# Altium schematic symbol library Connectors.SCHLIB: 77 symbols
Pins are listed as number, name and electrical type; pins without a type are passive.

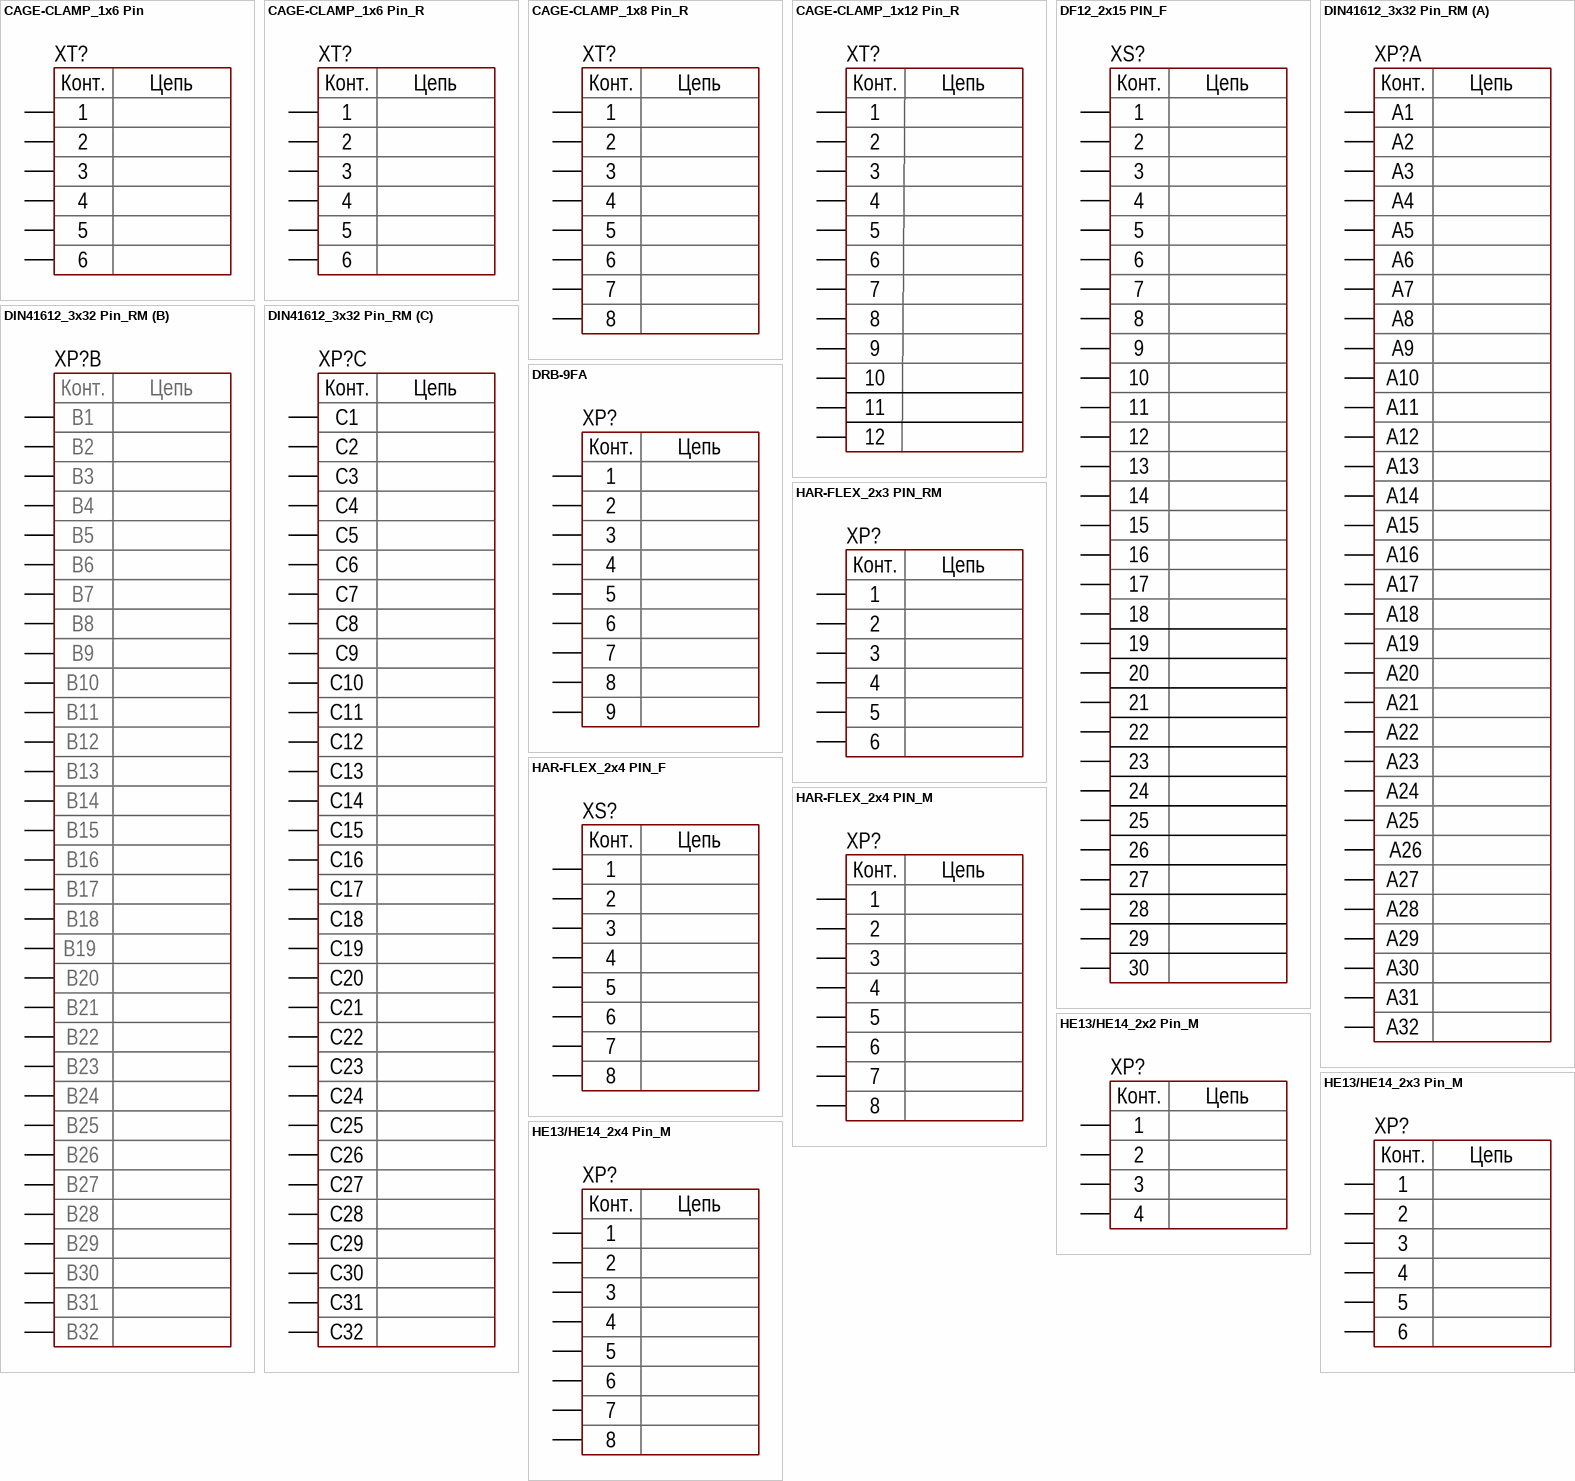
[diagram p0: symbols CAGE-CLAMP_1x6 Pin to HE13/HE14_2x4 Pin_M]

## CAGE-CLAMP_1x6 Pin
designator XT?, comment Cage Clamp  арт. 234-206 Wago  (value not drawn)
Cage Clamp, 1 Row, 6 Pin; Part N: 234-206 Wago
footprint CAGE-CLAMP_1x6 Pin
pins: 1, 2, 3, 4, 5, 6
text: Конт.; Цепь

## CAGE-CLAMP_1x6 Pin_R
designator XT?, comment Cage Clamp арт. 233-506 Wago  (value not drawn)
Cage Clamp, 1 Row, 6 Pin, Angled; Part N: 233-506 Wago
footprint CAGE-CLAMP_1x6 Pin_R
pins: 1, 2, 3, 4, 5, 6
text: Конт.; Цепь

## CAGE-CLAMP_1x8 Pin_R
designator XT?, comment Cage Clamp арт. 233-508 Wago  (value not drawn)
Cage Clamp, 1 Row, 8 Pin, Angled; Part N: 233-508 Wago
footprint CAGE-CLAMP_1x8 Pin_R
pins: 1, 2, 3, 4, 5, 6, 7, 8
text: Конт.; Цепь

## CAGE-CLAMP_1x12 Pin_R
designator XT?, comment Cage Clamp арт. 233-512 Wago  (value not drawn)
Cage Clamp, 1 Row, 12 Pin, Angled; Part N: Wago 233-512
footprint CAGE-CLAMP_1x12 Pin_R
pins: 1, 2, 3, 4, 5, 6, 7, 8, 9, 10, 11, 12
text: Конт.; Цепь

## DF12_2x15 PIN_F
designator XS?, comment DF12 арт. 537-0055-0 86 Hirose  (value not drawn)
footprint DF12_2X15 PIN_F
pins: 0 hidden to GND, 1, 2, 3, 4, 5, 6, 7, 8, 9, 10, 11, 12, 13, 14, 15, 16, 17, 18, 19, 20, 21, 22, 23, 24, 25, 26, 27, 28, 29, 30
text: Конт.; Цепь

## DIN41612_3x32 Pin_RM
designator XP?, comment DIN41612 арт. 09-03-196-7921 Harting  (value not drawn)
DIN 41612 Connector, Type C Series, 96 Contacts, Plug, 2.54 mm, 3 Row, a + b + c; Part: DIN41612-C-96-M-RA
footprint DIN41612-C-96-M-RA
part A pins: 0 hidden to GND, A1, A2, A3, A4, A5, A6, A7, A8, A9, A10, A11, A12, A13, A14, A15, A16, A17, A18, A19, A20, A21, A22, A23, A24, A25, A26, A27, A28, A29, A30, A31, A32
part B pins: B1, B2, B3, B4, B5, B6, B7, B8, B9, B10, B11, B12, B13, B14, B15, B16, B17, B18, B19, B20, B21, B22, B23, B24, B25, B26, B27, B28, B29, B30, B31, B32
part C pins: C1, C2, C3, C4, C5, C6, C7, C8, C9, C10, C11, C12, C13, C14, C15, C16, C17, C18, C19, C20, C21, C22, C23, C24, C25, C26, C27, C28, C29, C30, C31, C32
1 alternate drawing of the same symbol
part A text: Конт.; Цепь
part B text: Конт.; Цепь
part C text: Конт.; Цепь

## DRB-9FA
designator XP?  (value not drawn)
D-SUB 9 pin
footprint DRB-9FA
pins: 0 hidden to GND, 1, 2, 3, 4, 5, 6, 7, 8, 9
text: Конт.; Цепь

## HAR-FLEX_2x3 PIN_RM
designator XP?, comment Har-Flex арт. 15-15-006-2601-333 Harting  (value not drawn)
Har-Flex, 2 row, 6 pin, angled
footprint HAR-FLEX_2x3 PIN_RM
pins: 0 hidden to GND, 1, 2, 3, 4, 5, 6
text: Конт.; Цепь

## HAR-FLEX_2x4 PIN_F
designator XS?, comment Har-Flex арт. 15-22-008-2601-333 Harting  (value not drawn)
Har-Flex, 2 row, 8 pin
footprint HAR-FLEX_2x4 PIN_F
pins: 0 hidden to GND, 1, 2, 3, 4, 5, 6, 7, 8
text: Конт.; Цепь

## HAR-FLEX_2x4 PIN_M
designator XP?, comment Har-Flex арт. 15-12-008-2601-333 Harting  (value not drawn)
Har-Flex, 2 row, 8 pin
footprint HAR-FLEX_2x4 PIN_M
pins: 0 hidden to GND, 1, 2, 3, 4, 5, 6, 7, 8
text: Конт.; Цепь

## HE13/HE14_2x2 Pin_M
designator XP?, comment HE13/HE14 арт. 281739-2 TE Connectivity  (value not drawn)
AMPMODU HE13/HE14 Header 4 Pin 2.54 mm Thru-Hole
footprint HE13/HE14_2x2 Pin_M
pins: 1, 2, 3, 4
text: Конт.; Цепь

## HE13/HE14_2x3 Pin_M
designator XP?, comment HE13/HE14 арт. 281739-3 TE Connectivity  (value not drawn)
AMPMODU HE13/HE14 Header 6 Pin 2.54 mm Thru-Hole
footprint HE13/HE14_2x3 Pin_M
pins: 1, 2, 3, 4, 5, 6
text: Конт.; Цепь

## HE13/HE14_2x4 Pin_M
designator XP?, comment HE13/HE14 арт. 281739-4 TE Connectivity  (value not drawn)
AMPMODU HE13/HE14 Header 8 Pin 2.54 mm Thru-Hole
footprint HE13/HE14_2x4 Pin_M
pins: 1, 2, 3, 4, 5, 6, 7, 8
text: Конт.; Цепь

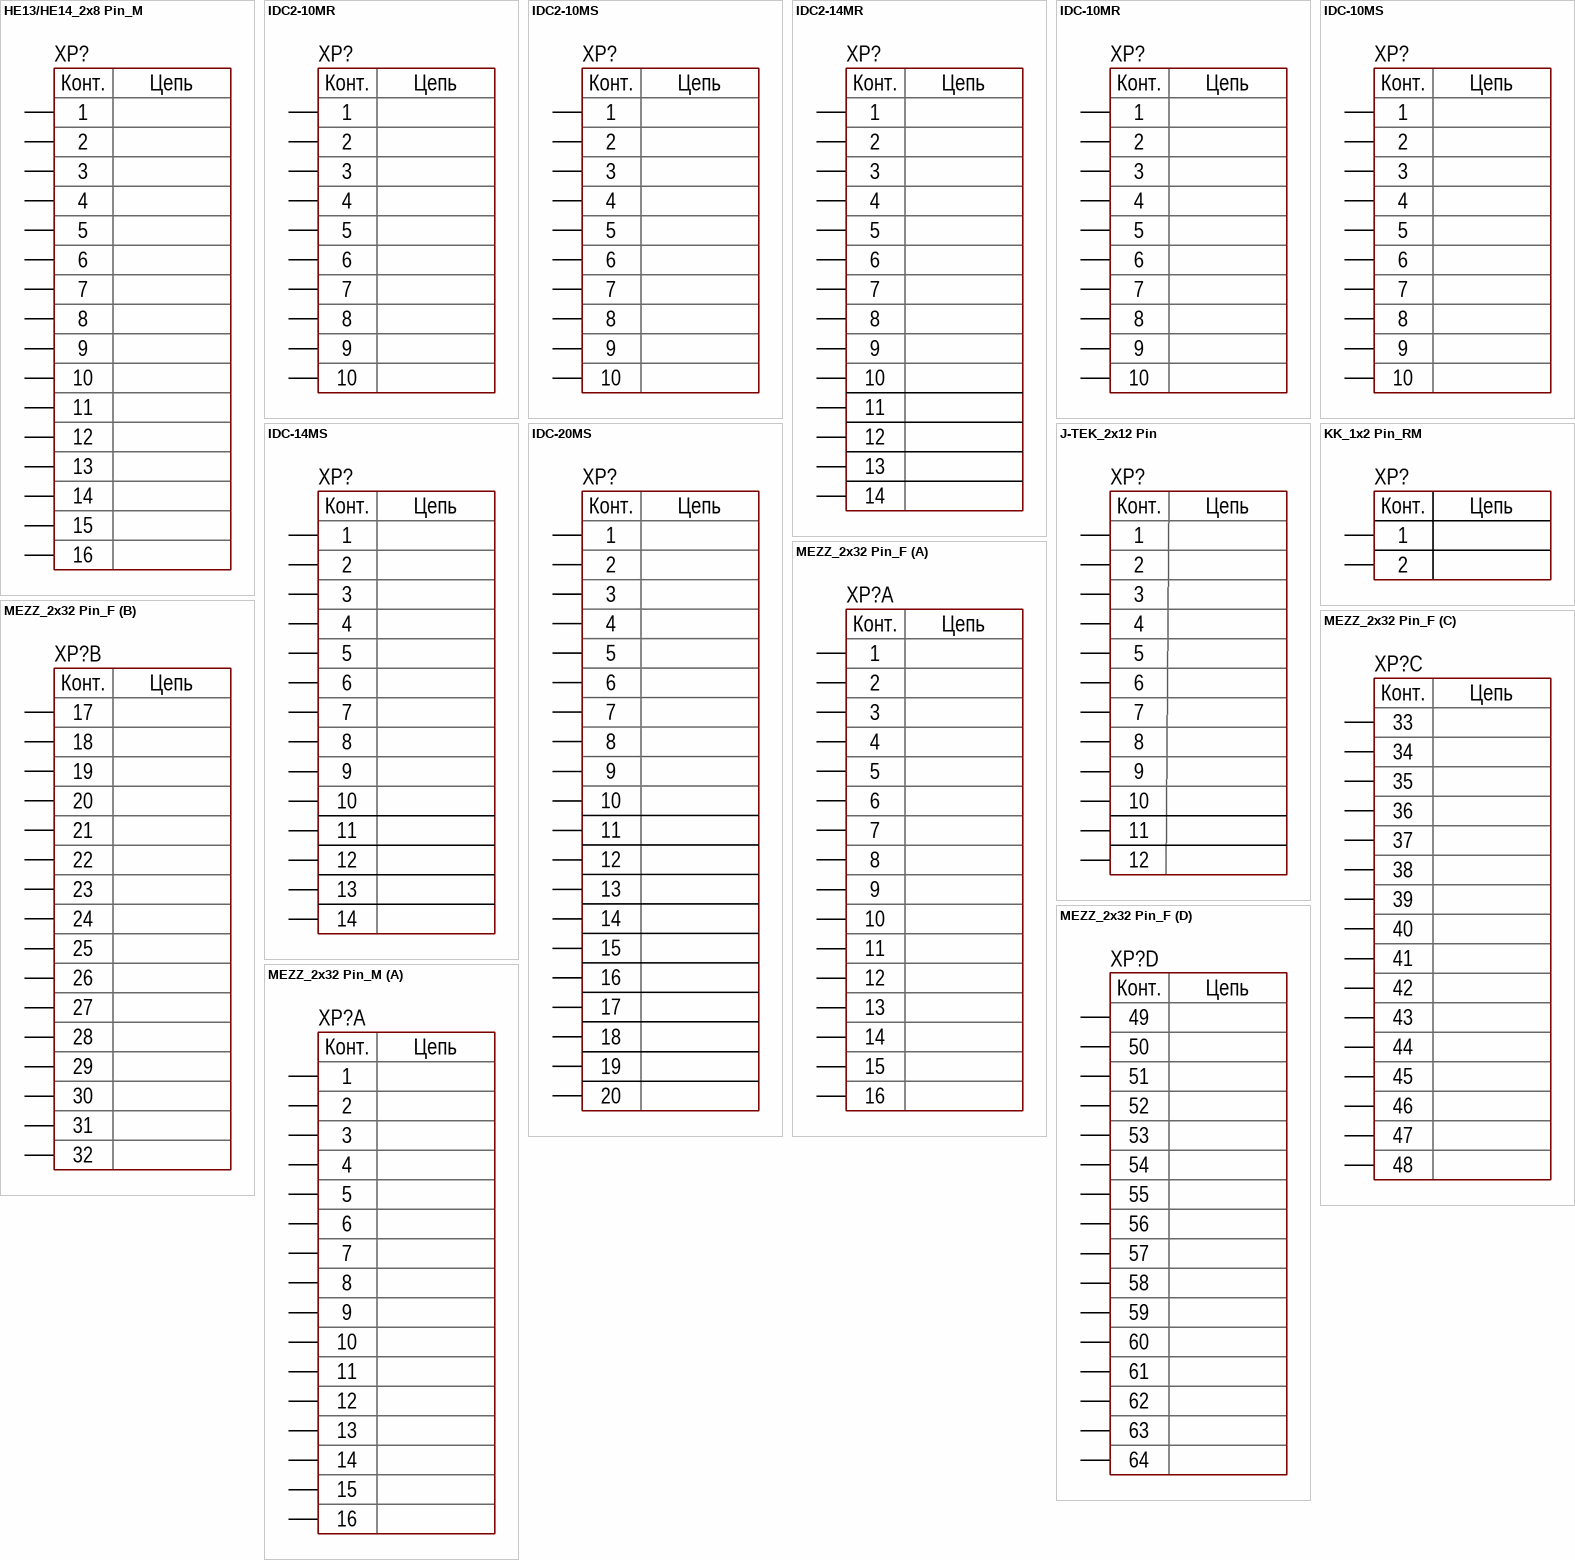
[diagram p1: symbols HE13/HE14_2x8 Pin_M to MEZZ_2x32 Pin_M]

## HE13/HE14_2x8 Pin_M
designator XP?, comment HE13/HE14 арт. 281739-8 TE Connectivity  (value not drawn)
AMPMODU HE13/HE14 Header 16 Pin 2.54 mm Thru-Hole
footprint HE13/HE14_2x8 Pin_M
pins: 1, 2, 3, 4, 5, 6, 7, 8, 9, 10, 11, 12, 13, 14, 15, 16
text: Конт.; Цепь

## IDC2-10MR
designator XP?  (value not drawn)
IDC Header, 10 pin, 2 row, 2mm, ANGLED; Part: BH2-10
footprint IDC2-10MR
pins: 1, 2, 3, 4, 5, 6, 7, 8, 9, 10
text: Конт.; Цепь

## IDC2-10MS
designator XP?  (value not drawn)
IDC Header, 10 pin, 2 row, 2mm; Part: BH2-10
footprint IDC2-10MS
pins: 1, 2, 3, 4, 5, 6, 7, 8, 9, 10
text: Конт.; Цепь

## IDC2-14MR
designator XP?  (value not drawn)
IDC Header, 14pin, 2 row, 2mm, angled
footprint IDC2-14MR
pins: 1, 2, 3, 4, 5, 6, 7, 8, 9, 10, 11, 12, 13, 14
text: Конт.; Цепь

## IDC-10MR
designator XP?  (value not drawn)
IDC Header, 10 pin, 2 row, 2.54mm, right angled
footprint IDC-10MR
pins: 1, 2, 3, 4, 5, 6, 7, 8, 9, 10
text: Конт.; Цепь

## IDC-10MS
designator XP?  (value not drawn)
IDC Header, 10 pin, 2 row, 2.54mm
footprint IDC-10MS
pins: 1, 2, 3, 4, 5, 6, 7, 8, 9, 10
text: Конт.; Цепь

## IDC-14MS
designator XP?  (value not drawn)
IDC Header, 14pin, 2 row, 2.54mm
footprint IDC-14MS
pins: 1, 2, 3, 4, 5, 6, 7, 8, 9, 10, 11, 12, 13, 14
text: Конт.; Цепь

## IDC-20MS
designator XP?  (value not drawn)
IDC Header, 20 pin, 2 row, 2.54mm
footprint IDC-20MS
pins: 1, 2, 3, 4, 5, 6, 7, 8, 9, 10, 11, 12, 13, 14, 15, 16, 17, 18, 19, 20
text: Конт.; Цепь

## J-TEK_2x12 Pin
designator XP?, comment J-Tek арт. M80-5001242 Harwin  (value not drawn)
J-Tek 12 signal; Part N: M80-5001242 Harwin
footprint J-TEK_2x12 Pin
pins: 0 hidden to GND, 1, 2, 3, 4, 5, 6, 7, 8, 9, 10, 11, 12
text: Конт.; Цепь

## KK_1x2 Pin_RM
designator XP?, comment KK арт. 22-05-3021 Molex  (value not drawn)
KK 254 2 pin angled; Manufacturer: Molex
footprint KK_1x2 Pin_RM (Molex 2.54mm Pitch KK® Solid Header, Right Angle, with Friction Lock, 2 Circuits, Tin (Sn) Plating)
pins: 1, 2
text: Конт.; Цепь

## MEZZ_2x32 Pin_F
designator XP?, comment Mezz арт. 71439-0164 Molex  (value not drawn)
Mezz (IEEE 1386) 64 pin female; Manufacturer: Molex
footprint MEZZ_2x32 Pin_F (Molex 1.00mm Pitch Mezzanine IEEE 1386 Receptacle, Surface Mount, Dual Row, Vertical Stacking, Tube, 0.76µm Gold (Au), 64 Circuits)
part A pins: 0 hidden to GND, 1, 2, 3, 4, 5, 6, 7, 8, 9, 10, 11, 12, 13, 14, 15, 16
part B pins: 17, 18, 19, 20, 21, 22, 23, 24, 25, 26, 27, 28, 29, 30, 31, 32
part C pins: 33, 34, 35, 36, 37, 38, 39, 40, 41, 42, 43, 44, 45, 46, 47, 48
part D pins: 49, 50, 51, 52, 53, 54, 55, 56, 57, 58, 59, 60, 61, 62, 63, 64
part A text: Конт.; Цепь
part B text: Конт.; Цепь
part C text: Конт.; Цепь
part D text: Конт.; Цепь

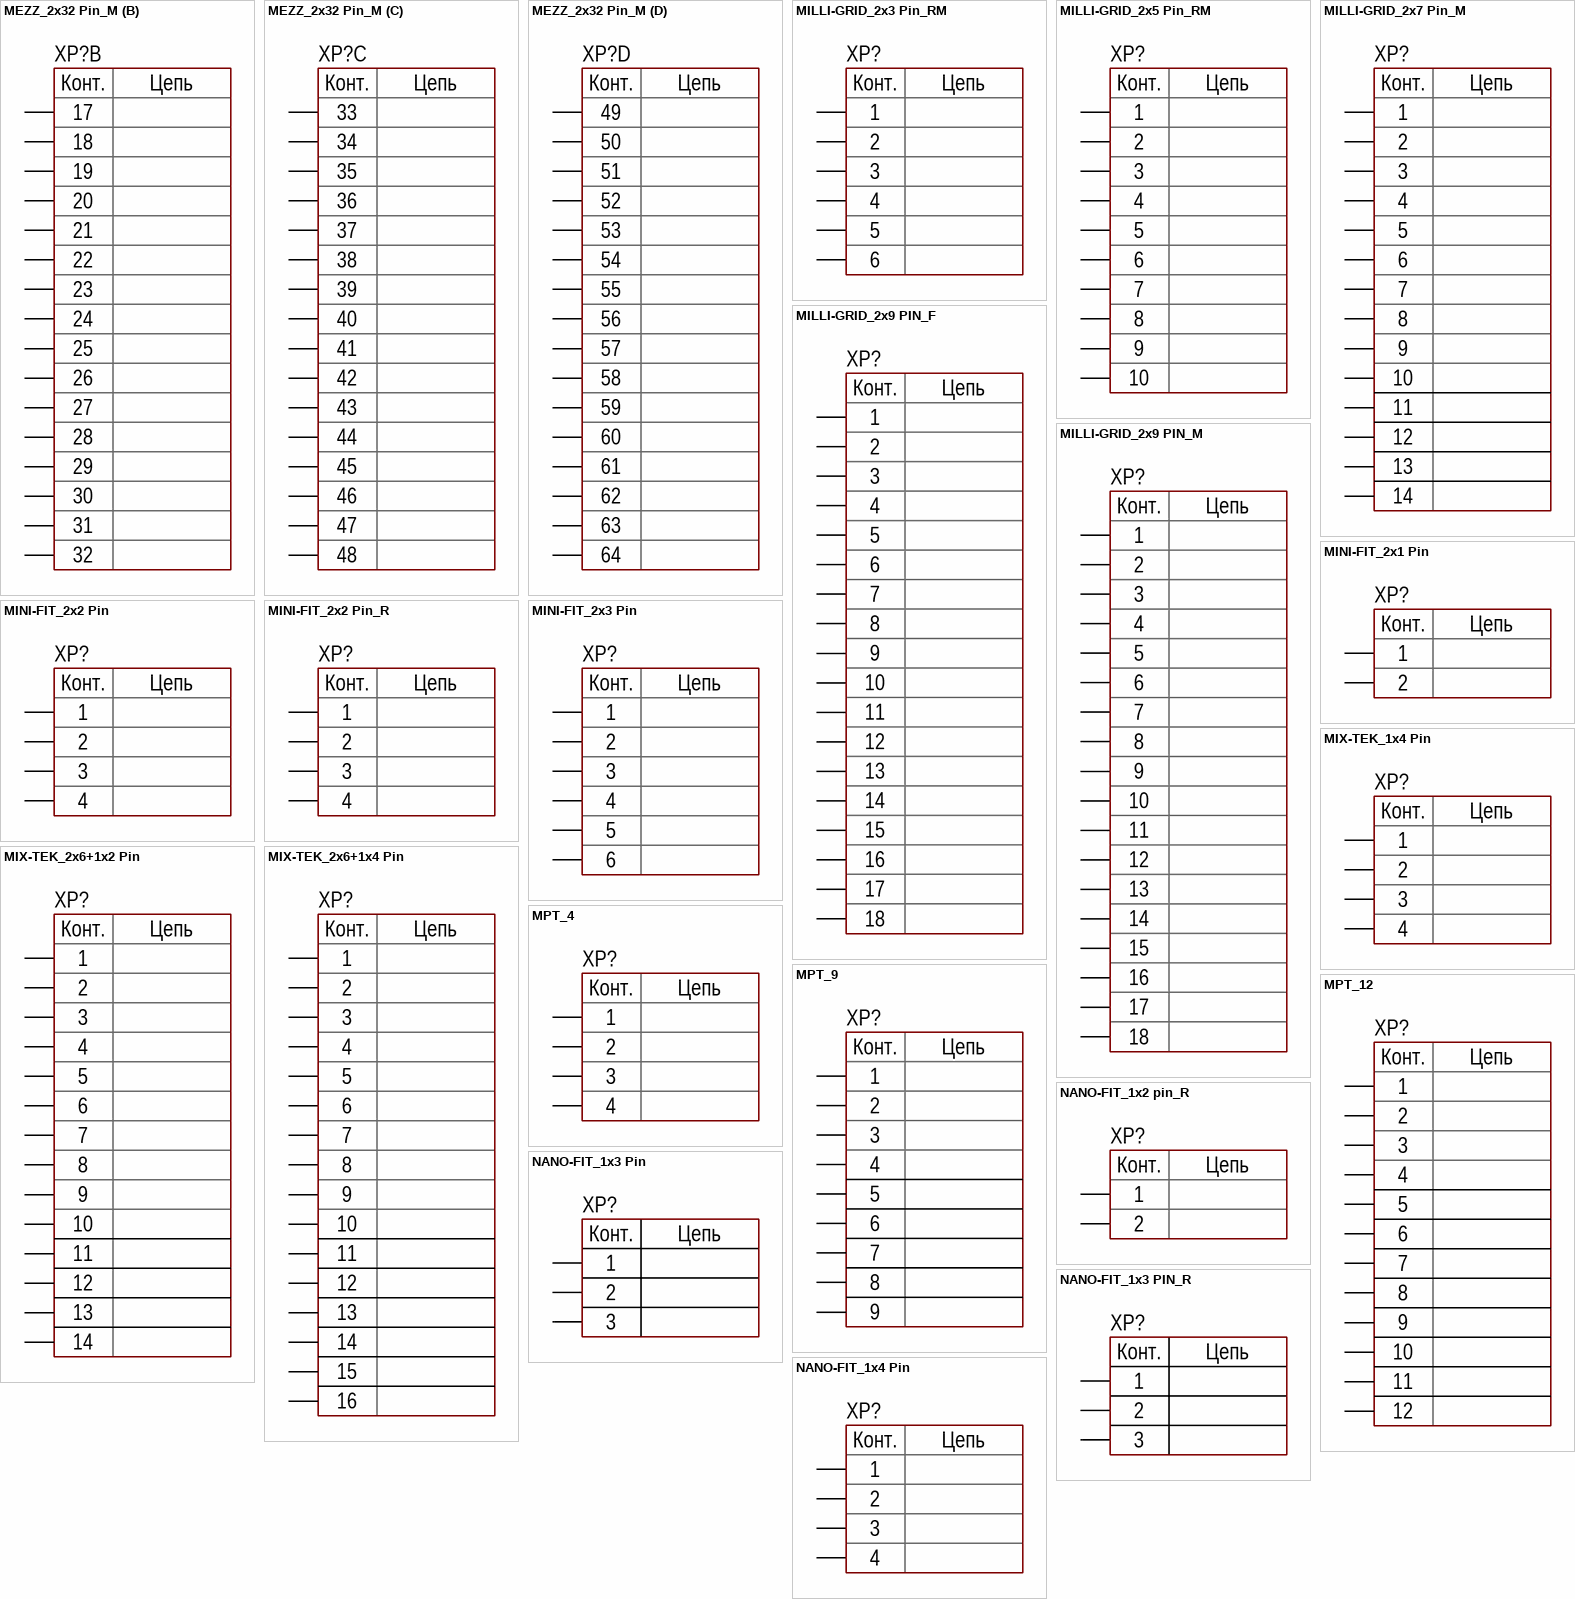
[diagram p2: symbols MEZZ_2x32 Pin_M to NANO-FIT_1x4 Pin]

## MEZZ_2x32 Pin_M
designator XP?, comment Mezz арт. 71436-0164 Molex  (value not drawn)
Mezz (IEEE 1386) 64 pin male; Manufacturer: Molex
footprint MEZZ_2x32 Pin_M (Molex 1.00mm Pitch Mezzanine IEEE 1386 Plug, Surface Mount, Dual Row, Vertical Stacking, 64 Circuits, 6.35mm Unmated Height, with PCB Locator Pegs)
part A pins: 0 hidden to GND, 1, 2, 3, 4, 5, 6, 7, 8, 9, 10, 11, 12, 13, 14, 15, 16
part B pins: 17, 18, 19, 20, 21, 22, 23, 24, 25, 26, 27, 28, 29, 30, 31, 32
part C pins: 33, 34, 35, 36, 37, 38, 39, 40, 41, 42, 43, 44, 45, 46, 47, 48
part D pins: 49, 50, 51, 52, 53, 54, 55, 56, 57, 58, 59, 60, 61, 62, 63, 64
part A text: Конт.; Цепь
part B text: Конт.; Цепь
part C text: Конт.; Цепь
part D text: Конт.; Цепь

## MILLI-GRID_2x3 Pin_RM
designator XP?, comment Milli-Grid арт. 87833-0619 Molex  (value not drawn)
Milli-Grid, 2 row, 6 pin, angled, male, shrouded; Manufacturer: Molex
footprint MILLI-GRID_2x3 Pin_RM (Molex 2.00mm Pitch Milli-Grid™ Header, Right Angle, Fully Shrouded, Lead-Free, 6 Circuits, Gold (Au) Flash Plating, without PCB Locator, without Locking Window, Center Polarization Slot, Tube)
pins: 1, 2, 3, 4, 5, 6
1 alternate drawing of the same symbol
text: Конт.; Цепь

## MILLI-GRID_2x5 Pin_RM
designator XP?, comment Milli-Grid арт. 78046-1020 Molex  (value not drawn)
Milli-Grid, 2 row, 10 pin, angled; Manufacturer: Molex
footprint MILLI-GRID_2x5 Pin_RM (Molex 2.00mm Pitch Milli-Grid™ Header, Right Angle, Through Hole, Shrouded, 10 Circuits, 0.38µm Gold (Au) Plating, with 2 Side Locking Slots, Center Polarization Window, Tube Packaging, Lead-Free)
pins: 1, 2, 3, 4, 5, 6, 7, 8, 9, 10
text: Конт.; Цепь

## MILLI-GRID_2x7 Pin_M
designator XP?, comment Milli-Grid арт. 87832-1420 Molex  (value not drawn)
Milli-Grid, 2 row, 14 pin
footprint MILLI-GRID_2x7 Pin_M (Molex 87832-1420)
pins: 0 hidden to GND, 1, 2, 3, 4, 5, 6, 7, 8, 9, 10, 11, 12, 13, 14
text: Конт.; Цепь

## MILLI-GRID_2x9 PIN_F
designator XP?, comment Milli-Grid арт. 79109-1008 Molex  (value not drawn)
MIlli-Grid 18 Pin; Part: 79109-1008
footprint MILLI-GRID_2x9 PIN_F (Molex 2.00mm Pitch Milli-Grid™ Receptacle, Surface Mount, Vertical, Top/Bottom Entry, without Press-fit Plastic Pegs, without Cap, Tube, 0.38µm Gold (Au) Selective, 18 Circuits, Lead-Free)
pins: 1, 2, 3, 4, 5, 6, 7, 8, 9, 10, 11, 12, 13, 14, 15, 16, 17, 18
text: Конт.; Цепь

## MILLI-GRID_2x9 PIN_M
designator XP?, comment Milli-Grid арт. 87759-1814 Molex  (value not drawn)
Milli-Grid, 2 row, 18 pin; Part: Molex 87759-1814
footprint MILLI-GRID_2x9 PIN_M (Molex 2.00mm Pitch Milli-Grid™ Receptacle, Surface Mount, Vertical, Top/Bottom Entry, without Press-fit Plastic Pegs, without Cap, Tube, 0.38µm Gold (Au) Selective, 18 Circuits, Lead-Free)
pins: 1, 2, 3, 4, 5, 6, 7, 8, 9, 10, 11, 12, 13, 14, 15, 16, 17, 18
text: Конт.; Цепь

## MINI-FIT_2x1 Pin
designator XP?, comment Mini-Fit арт. 39-29-9023 Molex  (value not drawn)
Mini-Fit 2 pin
footprint MINI-FIT_2x1 Pin
pins: 0 hidden to GND, 1, 2
text: Конт.; Цепь

## MINI-FIT_2x2 Pin
designator XP?, comment Mini-Fit арт. 39-28-1043 Molex  (value not drawn)
Mini-Fit 4 pin
footprint MINI-FIT_2x2 Pin
pins: 1, 2, 3, 4
text: Конт.; Цепь

## MINI-FIT_2x2 Pin_R
designator XP?, comment Mini-Fit арт. 39-30-1040 Molex  (value not drawn)
Mini-Fit 4 pin angled; Manufacturer: Molex
footprint MINI-FIT_2x2 Pin_R
pins: 0 hidden to GND, 1, 2, 3, 4
text: Конт.; Цепь

## MINI-FIT_2x3 Pin
designator XP?, comment Mini-Fit арт. 39-28-1063 Molex  (value not drawn)
Mini-Fit 6 pin
footprint MINI-FIT_2x3 Pin
pins: 1, 2, 3, 4, 5, 6
text: Конт.; Цепь

## MIX-TEK_1x4 Pin
designator XP?, comment Mix-Tek арт. M80-5000000M1-04-331-00-000 Harwin  (value not drawn)
Mix-Tek 4 power; Part N: M80-5000000M1-04-331-00-000 Harwin
footprint MIX-TEK_1x4 Pin
pins: 0 hidden to GND, 1, 2, 3, 4
text: Конт.; Цепь

## MIX-TEK_2x6+1x2 Pin
designator XP?, comment Mix-Tek арт. M80-5T11205M1-02-331-00-000 Harwin  (value not drawn)
Mix-Tek 12 signal/2 power
footprint MIX-TEK_2x6+1x2 Pin
pins: 0 hidden to GND, 1, 2, 3, 4, 5, 6, 7, 8, 9, 10, 11, 12, 13, 14
text: Конт.; Цепь

## MIX-TEK_2x6+1x4 Pin
designator XP?, comment M80-5T11205M1-04-331-00-000 Harwin  (value not drawn)
Mix-Tek 12 signal/4 power; Part N: M80-5T11205M1-04-331-00-000
footprint MIX-TEK_2x6+1x4 Pin
pins: 0 hidden to GND, 1, 2, 3, 4, 5, 6, 7, 8, 9, 10, 11, 12, 13, 14, 15, 16
text: Конт.; Цепь

## MPT_4
designator XP?, comment MPT арт. 1725672 Phoenix Contact  (value not drawn)
COMBICON MPT 4 Pin 2.54 mm Thru-Hole
footprint MPT_4 (1725672)
pins: 1, 2, 3, 4
text: Конт.; Цепь

## MPT_9
designator XP?, comment MPT арт. 1725724 Phoenix Contact  (value not drawn)
COMBICON MPT 9 Pin 2.54 mm Thru-Hole
footprint MPT_9 (1725724)
pins: 1, 2, 3, 4, 5, 6, 7, 8, 9
text: Конт.; Цепь

## MPT_12
designator XP?, comment MPT арт. 1725753 Phoenix Contact  (value not drawn)
COMBICON MPT 12 Pin 2.54 mm Thru-Hole
footprint MPT_12 (1725753)
pins: 1, 2, 3, 4, 5, 6, 7, 8, 9, 10, 11, 12
text: Конт.; Цепь

## NANO-FIT_1x2 pin_R
designator XP?, comment Nano-Fit арт. 105313-1102 Molex  (value not drawn)
Nano-Fit, 1 row, 2 pin, angled; Part N: MOLEX  105313-1102
footprint NANO-FIT_1x2 pin_R
pins: 0 hidden to GND, 1, 2
text: Конт.; Цепь

## NANO-FIT_1x3 Pin
designator XP?, comment Nano-Fit арт. 105309-1103 Molex  (value not drawn)
Nano-Fit, 1x3 pin; Part N: MOLEX  105313-1103
footprint Nano-Fit_1x3 Pin
pins: 0 hidden to GND, 1, 2, 3
text: Конт.; Цепь

## NANO-FIT_1x3 PIN_R
designator XP?, comment Nano-Fit арт. 105313-1103 Molex  (value not drawn)
Nano-Fit, 1 row, 3 pin, angled; Part N: MOLEX  105313-1103
footprint NANO-FIT_1x3 PIN_R
pins: 0 hidden to GND, 1, 2, 3
text: Конт.; Цепь

## NANO-FIT_1x4 Pin
designator XP?, comment Nano-Fit арт. 105309-1104 Molex  (value not drawn)
Nano-Fit, 1x4 pin; Part N: Molex 105309-1104
footprint Nano-Fit_1x4 Pin
pins: 0 hidden to GND, 1, 2, 3, 4
text: Конт.; Цепь

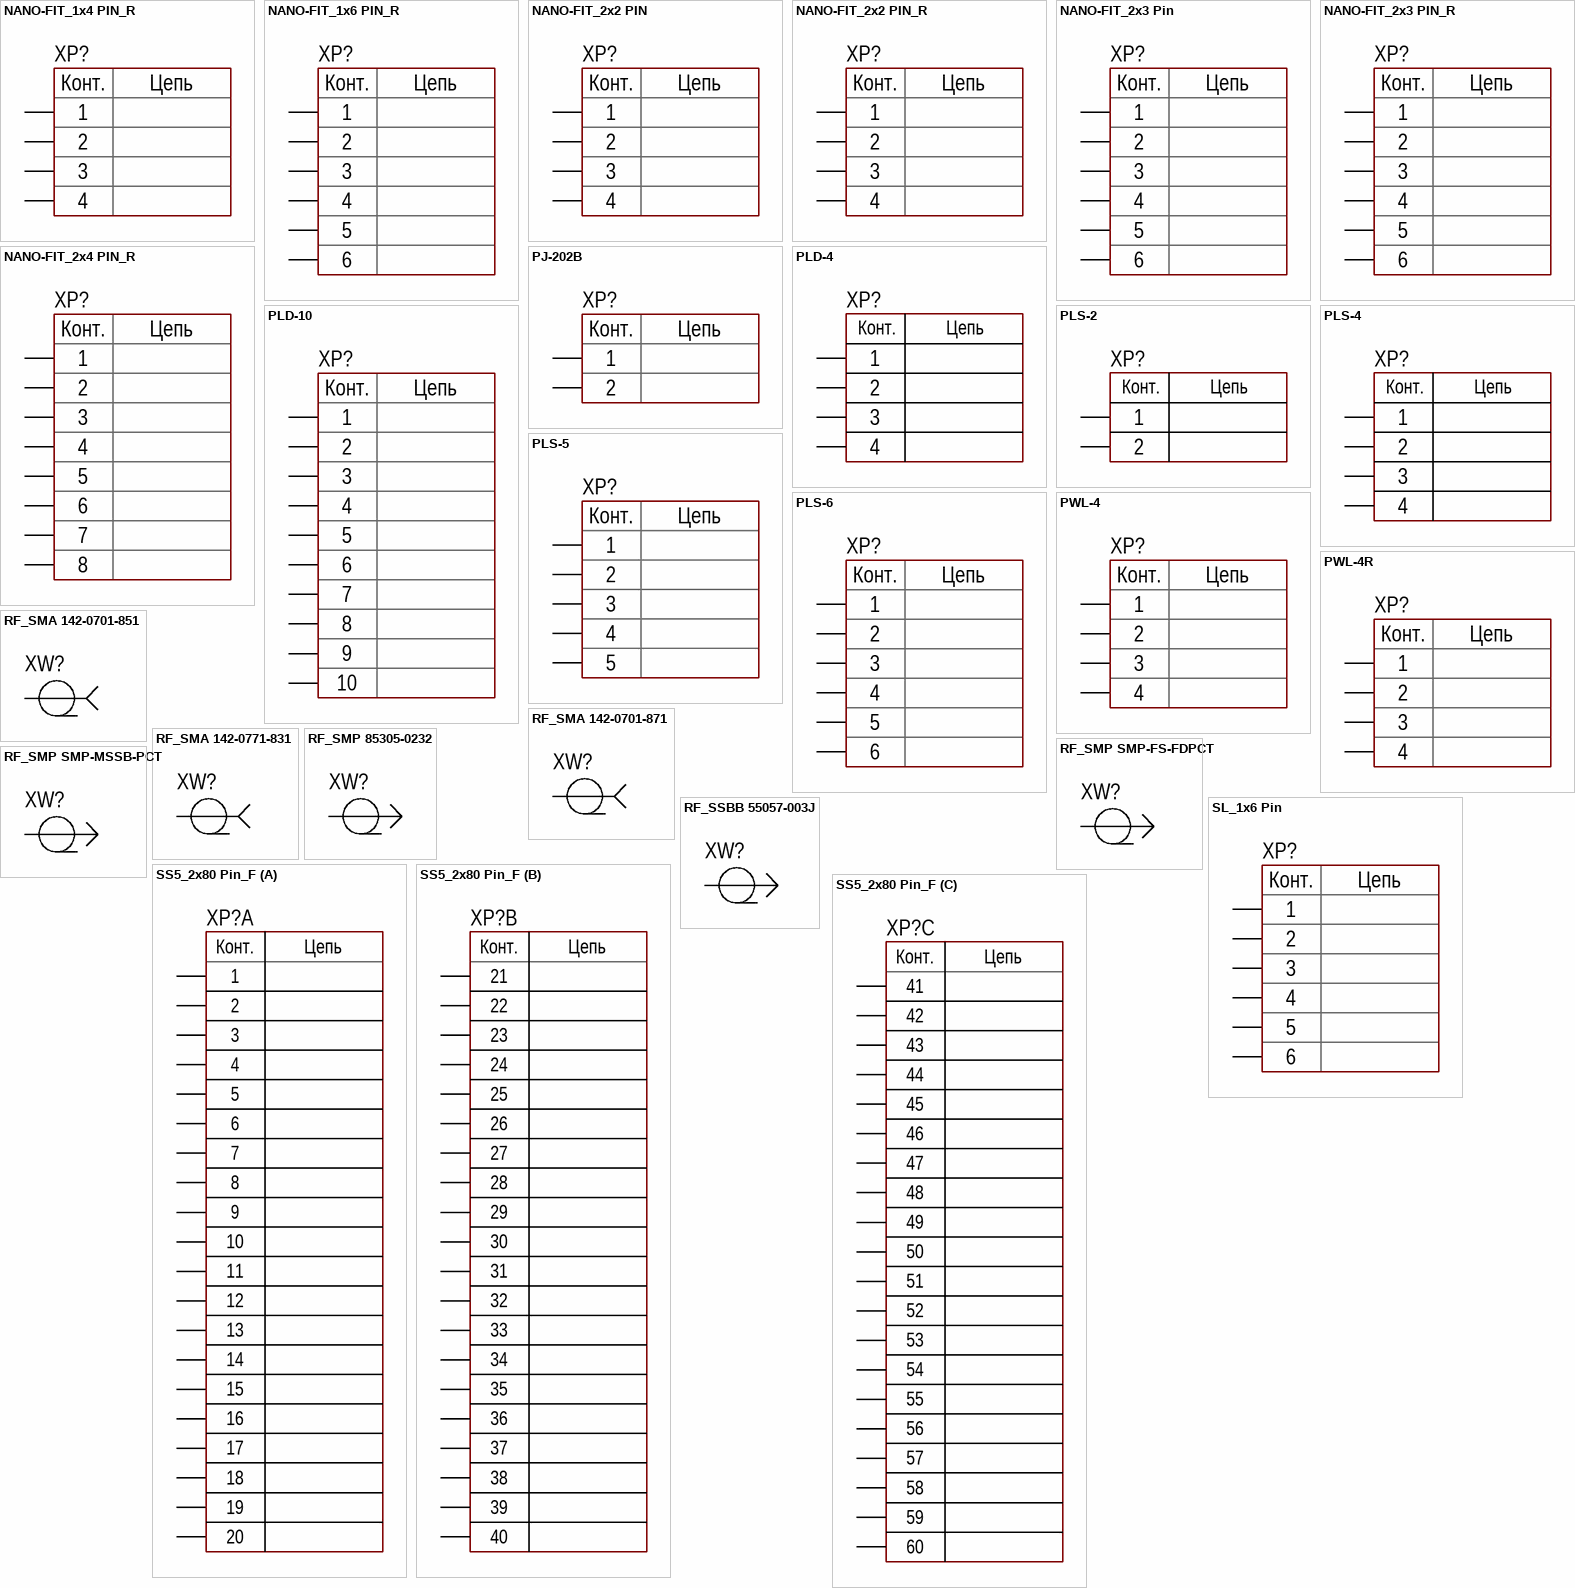
[diagram p3: symbols NANO-FIT_1x4 PIN_R to SS5_2x80 Pin_F]

## NANO-FIT_1x4 PIN_R
designator XP?, comment Nano-Fit арт. 105313-1104 Molex  (value not drawn)
Nano-Fit, 1 row, 4 pin, angled; Part N: MOLEX  105313-1104
footprint NANO-FIT_1x4 PIN_R
pins: 0 hidden to GND, 1, 2, 3, 4
text: Конт.; Цепь

## NANO-FIT_1x6 PIN_R
designator XP?, comment Nano-Fit арт. 105313-1106 Molex  (value not drawn)
MOLEX  105313-1106 (1x6 pin R/A L); Part N: MOLEX  105313-1106
footprint NANO-FIT_1x6 PIN_R
pins: 0 hidden to GND, 1, 2, 3, 4, 5, 6
text: Конт.; Цепь

## NANO-FIT_2x2 PIN
designator XP?, comment Nano-Fit арт. 105310-1104 Molex  (value not drawn)
Nano-Fit, 2 rows, 4 pins; Part N: MOLEX 105310-1104
footprint Nano-Fit_2x2 Pin
pins: 0 hidden to GND, 1, 2, 3, 4
text: Конт.; Цепь

## NANO-FIT_2x2 PIN_R
designator XP?, comment Nano-Fit арт. 105314-1104 Molex  (value not drawn)
Nano-Fit, 2 rows, 4 pin, angled; Part N: MOLEX 105314-1104
footprint MINI-FIT_2x2 Pin_R
pins: 0 hidden to GND, 1, 2, 3, 4
text: Конт.; Цепь

## NANO-FIT_2x3 Pin
designator XP?, comment Nano-Fit арт. 105310-1106 Molex  (value not drawn)
Nano-Fit, 2 rows, 6 pin; Part N: MOLEX 105310-1106
footprint Nano-Fit_2x3 Pin
pins: 0 hidden to GND, 1, 2, 3, 4, 5, 6
text: Конт.; Цепь

## NANO-FIT_2x3 PIN_R
designator XP?, comment Nano-Fit арт. MOLEX 105314-1106 Molex  (value not drawn)
Nano-fit, 2 rows, 6 pin, angled; Part N: MOLEX 105314-1106
footprint NANO-FIT_2x3 PIN_R
pins: 0 hidden to GND, 1, 2, 3, 4, 5, 6
text: Конт.; Цепь

## NANO-FIT_2x4 PIN_R
designator XP?, comment Nano-Fit арт. 105314-1108 Molex  (value not drawn)
Nano-Fit, 2 rows, 8 pin, angled; Part N: MOLEX 105314-1108
footprint NANO-FIT_2x4 PIN_R
pins: 0 hidden to GND, 1, 2, 3, 4, 5, 6, 7, 8
text: Конт.; Цепь

## PJ-202B
designator XP?  (value not drawn)
Power Jack, 24VDC, 2.5A
footprint PJ-202B
pins: 1, 2
text: Конт.; Цепь

## PLD-4
designator XP?  (value not drawn)
PLD Header, 4 pin
footprint PLD-4
pins: 1, 2, 3 (power), 4 (power)
text: Конт.; Цепь

## PLD-10
designator XP?  (value not drawn)
PLD Header, 10 pin
footprint PLD-10
pins: 1, 2, 3, 4, 5, 6, 7, 8, 9, 10
text: Конт.; Цепь

## PLS-2
designator XP?  (value not drawn)
PLS Header, 2 pin
footprint PLS-2
pins: 1, 2
text: Конт.; Цепь

## PLS-4
designator XP?  (value not drawn)
PLS Header, 4 pin
footprint PLS-4 (PLS-40 4 pin header)
pins: 1, 2, 3 (power), 4 (power)
text: Конт.; Цепь

## PLS-5
designator XP?  (value not drawn)
PLS Header, 6 pin
footprint PLS-5
pins: 1, 2, 3, 4, 5
text: Конт.; Цепь

## PLS-6
designator XP?  (value not drawn)
PLS Header, 6 pin; Part N: PLS-6
footprint PLS-6
pins: 1, 2, 3, 4, 5, 6
text: Конт.; Цепь

## PWL-4
designator XP?  (value not drawn)
PWL Header, 4 pin
footprint PWL-4
pins: 1, 2, 3, 4
text: Конт.; Цепь

## PWL-4R
designator XP?  (value not drawn)
PWL Header, 4 pin, angled; Part N: PWL-4R
footprint PWL-4R
pins: 1, 2, 3, 4
text: Конт.; Цепь

## RF_SMA 142-0701-851
designator XW?, comment SMA арт. 142-0701-851 Cinch  (value not drawn)
SMA, board edge mount
footprint RF_SMA 142-0701-851
pins: 1 Wire, 2 SHIELD hidden to GND

## RF_SMA 142-0701-871
designator XW?, comment SMA арт. 142-0701-871 Cinch  (value not drawn)
SMA, board edge mount
footprint RF_SMA 142-0701-871
pins: 1 Wire, 2 SHIELD hidden to GND

## RF_SMA 142-0771-831
designator XW?, comment SMA арт. 142-0771-831 Cinch  (value not drawn)
SMA Connector Jack, Female Socket 50Ohm Board Edge, End Launch Solder
footprint RF_SMA 142-0771-831
pins: 1 Wire, 2 SHIELD hidden to GND

## RF_SMP 85305-0232
designator XW?, comment SMP арт. 85305-0232 Molex  (value not drawn)
SMP header; Part: SMA 132371
footprint RF_SMP 85305-0232
pins: 1 Wire, 2 SHIELD hidden to GND

## RF_SMP SMP-FS-FDPCT
designator XW?, comment SMP арт. SMP-FS-FDPCT Amphenol RF  (value not drawn)
RF Connector SMP Straight PCB Full Detent Jack Through Hole 50 Ohm, DC to 12 GHz; Part: SMA 132371
footprint RF_SMP SMP-FS-FDPCT
pins: 1 Wire, 2 SHIELD hidden to GND

## RF_SMP SMP-MSSB-PCT
designator XW?, comment SMP арт. SMP-MSSB-PCT Amphenol RF  (value not drawn)
SMP Connector Receptacle, Male Pin 50Ohm Through Hole Solder, DC to 6 GHz; Part: SMA 132371
footprint RF_SMP SMP-MSSB-PCT
pins: 1 Wire, 2 SHIELD hidden to GND

## RF_SSBB 55057-003J
designator XW?, comment SSBB арт. 55057-003J Southwest Microwave  (value not drawn)
SSBB Board-to-Board PCB Receptacle Solder-On Vertical Mount
footprint RF_SSBB 55057-003J
pins: 0 hidden to GND, 1 Wire

## SL_1x6 Pin
designator XP?, comment SL арт. 70543-0005 Molex  (value not drawn)
SL, 1 row, 6 pin
footprint SL_1x6 Pin
pins: 1, 2, 3, 4, 5, 6
1 alternate drawing of the same symbol
text: Конт.; Цепь

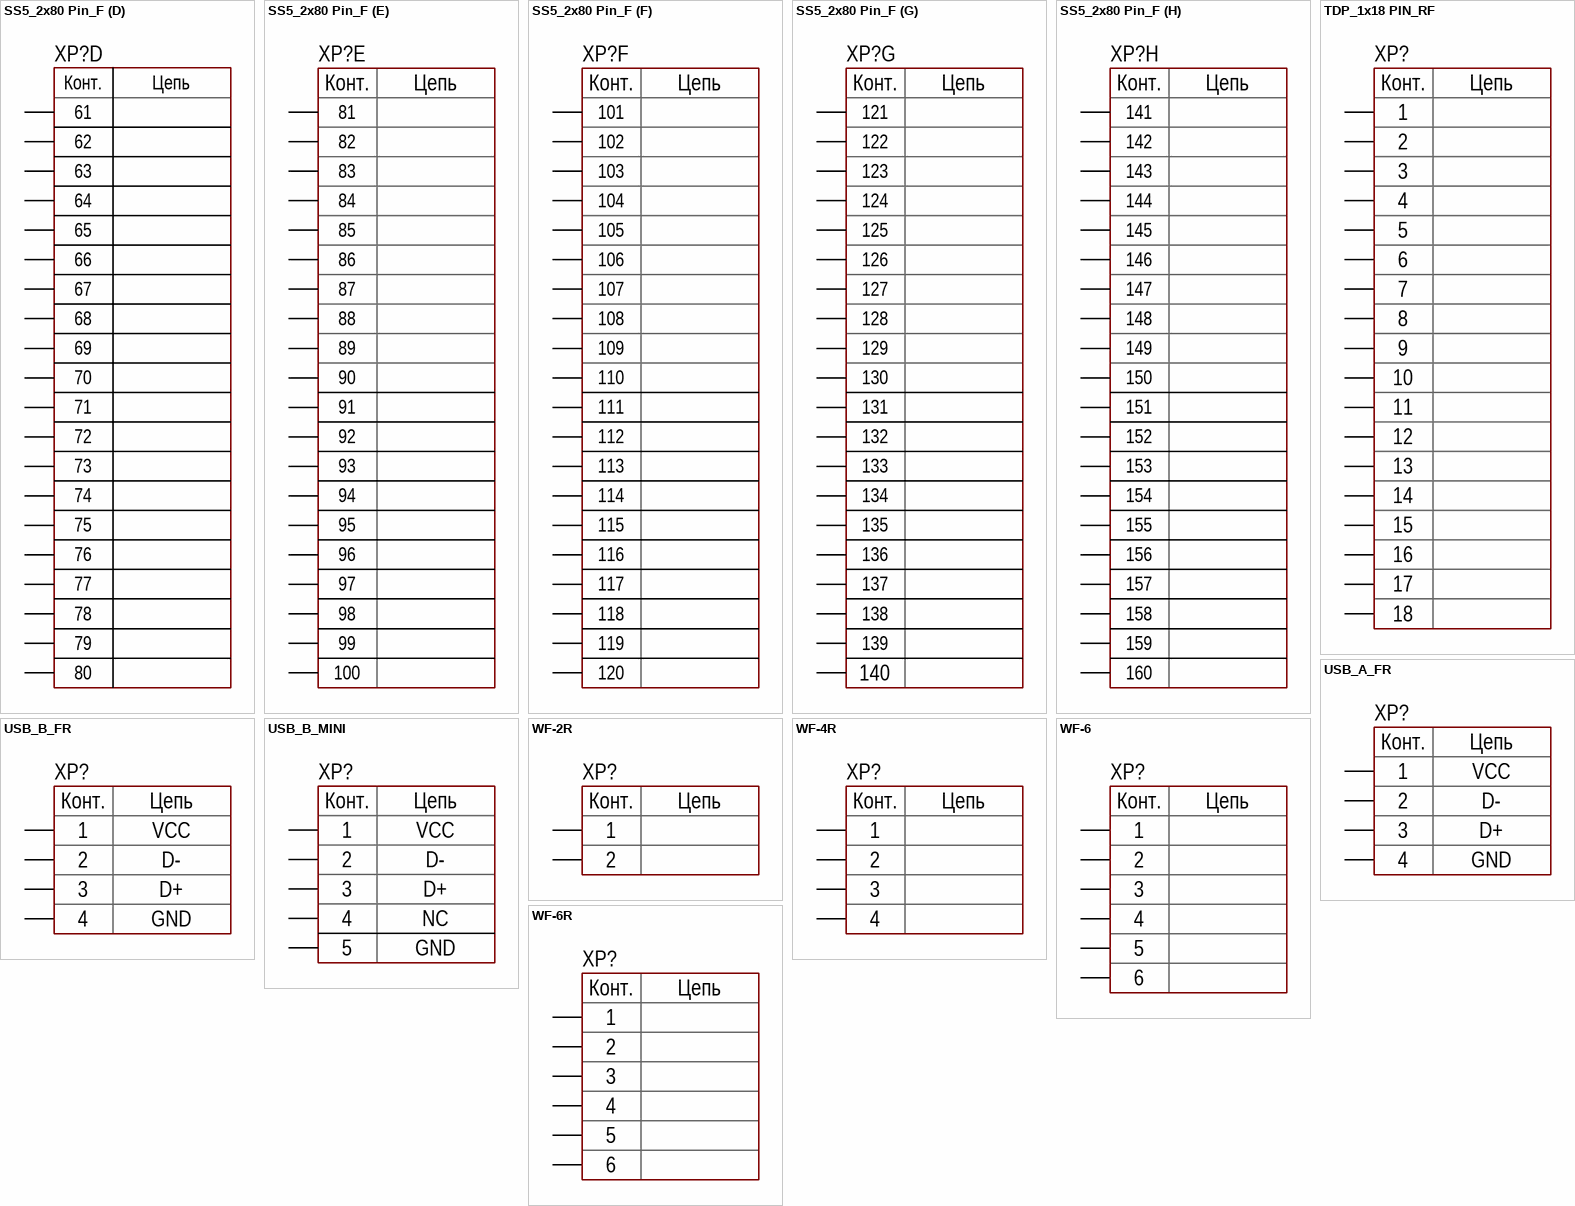
[diagram p4: symbols SS5_2x80 Pin_F to WF-6R]

## SS5_2x80 Pin_F
designator XP?, comment SS5 арт. SS5-80-3.50-L-D-K-TR Samtec  (value not drawn)
Razor Beam SS5, 2 row, 160 pin; Part: Samtec SS5-80-3.50-L-D-K-TR; Vendor: Samtec
footprint SS5_2x80 Pin_F
part A pins: 1, 2, 3, 4, 5, 6, 7, 8, 9, 10, 11, 12, 13, 14, 15, 16, 17, 18, 19, 20
part B pins: 21, 22, 23, 24, 25, 26, 27, 28, 29, 30, 31, 32, 33, 34, 35, 36, 37, 38, 39, 40
part C pins: 41, 42, 43, 44, 45, 46, 47, 48, 49, 50, 51, 52, 53, 54, 55, 56, 57, 58, 59, 60
part D pins: 61, 62, 63, 64, 65, 66, 67, 68, 69, 70, 71, 72, 73, 74, 75, 76, 77, 78, 79, 80
part E pins: 81, 82, 83, 84, 85, 86, 87, 88, 89, 90, 91, 92, 93, 94, 95, 96, 97, 98, 99, 100
part F pins: 101, 102, 103, 104, 105, 106, 107, 108, 109, 110, 111, 112, 113, 114, 115, 116, 117, 118, 119, 120
part G pins: 121, 122, 123, 124, 125, 126, 127, 128, 129, 130, 131, 132, 133, 134, 135, 136, 137, 138, 139, 140
part H pins: 141, 142, 143, 144, 145, 146, 147, 148, 149, 150, 151, 152, 153, 154, 155, 156, 157, 158, 159, 160
part A text: Конт.; Цепь
part B text: Конт.; Цепь
part C text: Конт.; Цепь
part D text: Конт.; Цепь
part E text: Конт.; Цепь
part F text: Конт.; Цепь
part G text: Конт.; Цепь
part H text: Конт.; Цепь

## TDP_1x18 PIN_RF
designator XP?, comment TDP арт. 74960-3018 Molex  (value not drawn)
TDP, 1 row, 18 pin, angled, female
footprint TDP_18
pins: 0 hidden to GND, 1, 2, 3, 4, 5, 6, 7, 8, 9, 10, 11, 12, 13, 14, 15, 16, 17, 18
text: Конт.; Цепь

## USB_A_FR
designator XP?, comment USB арт. 67643-0910  (value not drawn)
USB A, Female, Angled
footprint USB_A
pins: 0 hidden to GND, 1, 2, 3, 4
text: Конт.; Цепь; VCC; D-; D+; GND

## USB_B_FR
designator XP?, comment USB арт. 67068-8011 Molex  (value not drawn)
USB B, Female, Angled; LatestRevisionDate: 17-Jul-2002; LatestRevisionNote: Re-released for DXP Platform.; Publisher: Altium Limited
footprint USB_B (Connector; USB2.0, Type B, SM; 5 Position; Right Angle)
pins: 0 (power) hidden to GND, 1, 2, 3, 4
text: Конт.; Цепь; VCC; D-; D+; GND

## USB_B_MINI
designator XP?, comment USB арт. 67503-1020 Molex  (value not drawn)
USB Mini B, Female; LatestRevisionDate: 17-Jul-2002; LatestRevisionNote: Re-released for DXP Platform.; Publisher: Altium Limited
footprint USB_Mini_B (Connector; USB2.0, Type B, SM; 5 Position; Right Angle)
pins: 0 (power) hidden to GND, 1, 2, 3, 4, 5
text: Конт.; Цепь; VCC; D-; D+; NC; GND

## WF-2R
designator XP?  (value not drawn)
WF Header, 1 Row, 2 Pin, Angled; Part: WF-2R
footprint WF-2R
pins: 1, 2
text: Конт.; Цепь

## WF-4R
designator XP?  (value not drawn)
WF Header, 1 Row, 4 Pin, Angled; Part: WF-4R
footprint WF-4R
pins: 1, 2, 3, 4
text: Конт.; Цепь

## WF-6
designator XP?  (value not drawn)
WF Header, 1 Row, 6 Pin; Part: WF-6
footprint WF-6
pins: 1, 2, 3, 4, 5, 6
text: Конт.; Цепь

## WF-6R
designator XP?  (value not drawn)
WF Header, 1 Row, 6 Pin, Angled; Part: WF-6R
footprint WF-6R
pins: 1, 2, 3, 4, 5, 6
text: Конт.; Цепь